# Altium schematic symbol library SI3469DV.SchLib: 2 symbols
Pins are listed as number, name and electrical type; pins without a type are passive.

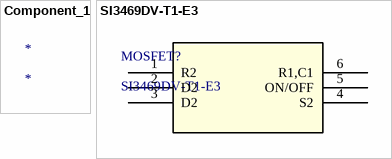
[diagram p0: symbols Component_1 to SI3469DV-T1-E3]

## Component_1
designator *

## SI3469DV-T1-E3
designator MOSFET?
No Description Available; Built_By: EMA_Anthony; Vendor: Vishay; SourceLibrary: Vishay_2019-11-13; Copyright: Copyright (C) 2018 Accelerated Designs. All rights reserved; Datasheet: VY1332M51Y5UC63V0; Manufacturer_Part_Number: SI3469DV-T1-E3; RefDes: RefDes; Type: DEV
pins: 1 R2, 2 D2, 3 D2, 4 S2, 5 ON/OFF, 6 R1,C1